# EAGLE library part TC74HCU04AP (library Buffer)
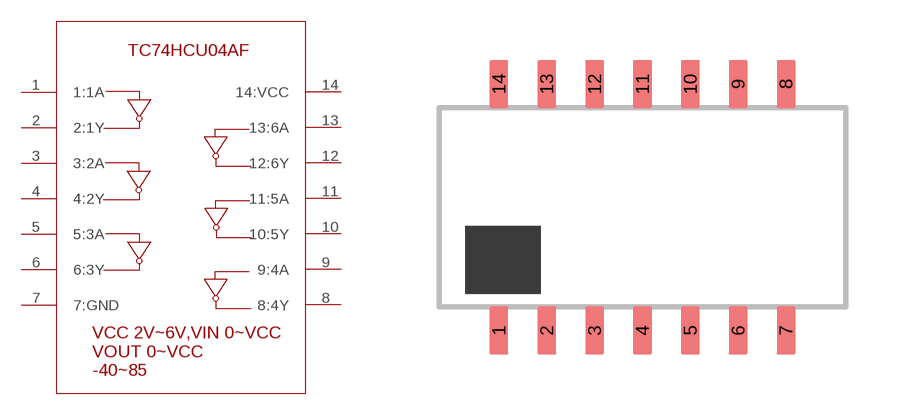
[diagram p1: symbol with the pads of TC74HCU04AP; footprint TC74HCU04AP]

Designator prefix -

## TC74HCU04AP  [TC74HCU04AP]
1  1:1A
2  2:1Y
3  3:2A
4  4:2Y
5  5:3A
6  6:3Y
7  7:GND
8  8:4Y
9  9:4A
10  10:5Y
11  11:5A
12  12:6Y
13  13:6A
14  14:VCC

## Footprint TC74HCU04AP (pad centres in mm)
smd 0.5 x 1.27: 1 -3.81,-3.275; 2 -2.54,-3.275; 3 -1.27,-3.275; 4 0,-3.275; 5 1.27,-3.275; 6 2.54,-3.275; 7 3.81,-3.275; 8 3.81,3.275; 9 2.54,3.275; 10 1.27,3.275; 11 0,3.275; 12 -1.27,3.275; 13 -2.54,3.275; 14 -3.81,3.275